# Altium integrated library LARS_409_RADIO.Library.IntLib: 6 symbols
Pins are listed as number, name and electrical type; pins without a type are passive.

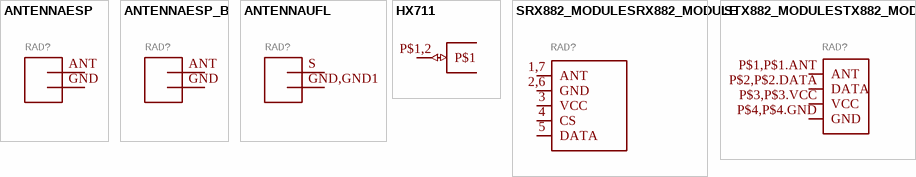
[diagram p0: symbols ANTENNAESP to STX882_MODULESTX882_MODULE]

## ANTENNAESP
designator RAD?
GateName_1: G$1; SymbolName_1: ANTENNA; DeviceName: ESP; LibraryName: LARS_409_RADIO; DeviceSetName: ANTENNA; Package: 2.4GHZ
footprint 2.4GHZ
pins: ANT ANTENNA, GND

## ANTENNAESP_B
designator RAD?
GateName_1: G$1; SymbolName_1: ANTENNA; DeviceName: ESP_B; LibraryName: LARS_409_RADIO; DeviceSetName: ANTENNA; Package: 2.4GHZB
footprint 2.4GHZB
pins: ANT ANTENNA, GND

## ANTENNAUFL
designator RAD?
GateName_1: G$1; SymbolName_1: ANTENNA; DeviceName: UFL; LibraryName: LARS_409_RADIO; DeviceSetName: ANTENNA; Package: U.FL
footprint U.FL
pins: GND,GND1 GND, S ANTENNA

## HX711
designator ?
GateName_1: G$1; SymbolName_1: ANTENA_CUSTOM; DeviceSetName: HX711; LibraryName: LARS_409_RADIO; Package: HX711
footprint HX711
pins: P$1,2 P$1 (io)

## SRX882_MODULESRX882_MODULE
designator RAD?
GateName_1: G$1; SymbolName_1: SRX882; DeviceName: SRX882_MODULE; LibraryName: LARS_409_RADIO; DeviceSetName: SRX882_MODULE; Package: SRX882_MODULE
footprint SRX882_MODULE
pins: 1,7 ANT (io), 2,6 GND (io), 3 VCC (io), 4 CS (io), 5 DATA (io)

## STX882_MODULESTX882_MODULE
designator RAD?
GateName_1: G$1; SymbolName_1: STX882; DeviceName: STX882_MODULE; LibraryName: LARS_409_RADIO; DeviceSetName: STX882_MODULE; Package: STX882_MODULE
footprint STX882_MODULE
pins: P$1,P$1.ANT ANT (io), P$2,P$2.DATA DATA (io), P$3,P$3.VCC VCC (io), P$4,P$4.GND GND (io)